# EAGLE library part M24C08-WBN6P (library ST Microelctronics_By_element14_Batch_1)
I²C bus EEPROM
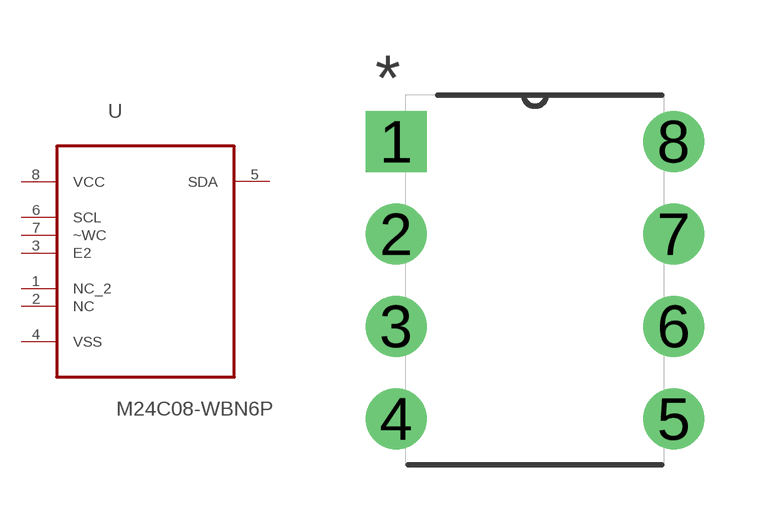
[diagram p150: symbol with the pads of DIP254P762X533-8; footprint DIP254P762X533-8]

Designator prefix U

## M24C08-WBN6P (MPN: M24C08-WBN6P; OC_FARNELL: 9882820; OC_NEWARK: 24M5069; PACKAGE: PDIP-8; SUPPLIER: STMicroelectronics)  [DIP254P762X533-8]
1  NC_2  nc
2  NC  nc
3  E2  in
4  VSS  pwr
5  SDA
6  SCL  in
7  ~WC  in
8  VCC  pwr

## Footprint DIP254P762X533-8 (pad centres in mm)
drill 1.118 square: 1 -7.62,7.62
drill 1.118: 2 -7.62,5.08; 3 -7.62,2.54; 4 -7.62,0; 5 0,0; 6 0,2.54; 7 0,5.08; 8 0,7.62